# EAGLE library part AVR-JTAG (library avr)
AVR JTAG Port
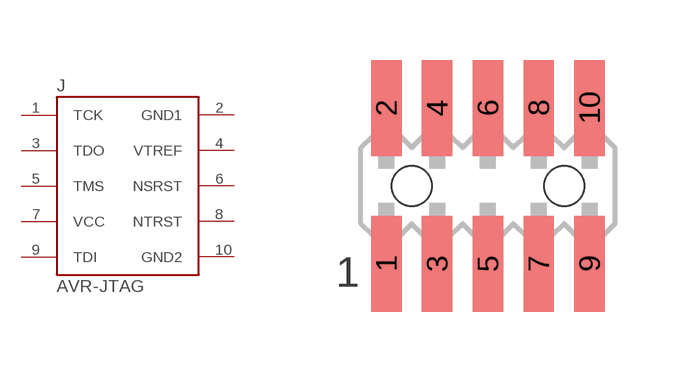
[diagram p2: symbol with the pads of 20021121-10010XXLF; footprint 20021121-10010XXLF]

Designator prefix J

## AVR-JTAG  [20021121-10010XXLF]
1  TCK
2  GND1
3  TDO
4  VTREF
5  TMS
6  NSRST
7  VCC
8  NTRST
9  TDI
10  GND2

## Footprint 20021121-10010XXLF (pad centres in mm)
Minitek 1.27mm SMD Header 10 Pin
smd 0.76 x 2.4: 1 -2.54,-1.95; 2 -2.54,1.95; 3 -1.27,-1.95; 4 -1.27,1.95; 5 0,-1.95; 6 0,1.95; 7 1.27,-1.95; 8 1.27,1.95; 9 2.54,-1.95; 10 2.54,1.95
hole 1 at -1.905,0
hole 1 at 1.905,0